# EAGLE library part SIM800L (library simcom)
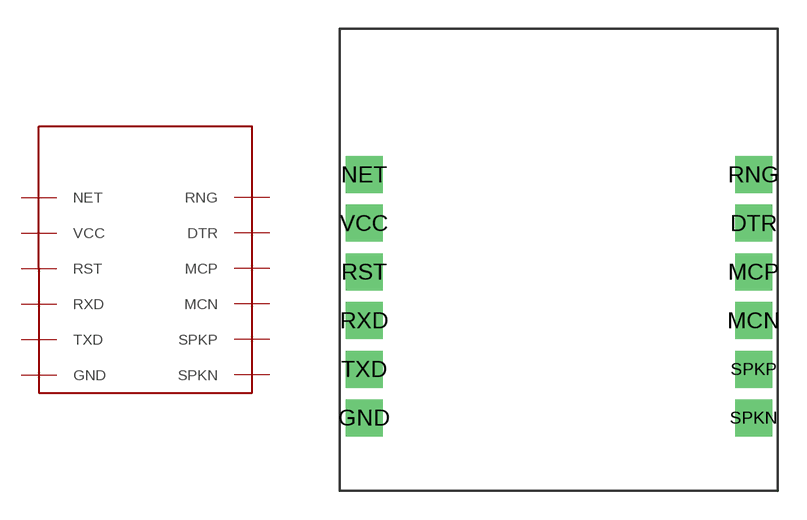
[diagram p0: symbol with the pads of SIM-CORE; footprint SIM-CORE]

Designator prefix -

## SIM800L  [SIM-CORE]
DTR  DTR
GND  GND
MCN  MCN
MCP  MCP
NET  NET
RNG  RNG
RST  RST
RXD  RXD
SPKN  SPKN
SPKP  SPKP
TXD  TXD
VCC  VCC

## Footprint SIM-CORE (pad centres in mm)
drill 0.8 pad 1.93 square: DTR 21.59,13.97; GND 1.27,3.81; MCN 21.59,8.89; MCP 21.59,11.43; NET 1.27,16.51; RNG 21.59,16.51; RST 1.27,11.43; RXD 1.27,8.89; SPKN 21.59,3.81; SPKP 21.59,6.35; TXD 1.27,6.35; VCC 1.27,13.97